# Altium footprint library Footprints.PcbLib: 1 footprints
Each footprint in its own frame and in the unit in brackets; x right, y up, seen from the top. Pads: shape width x height; smd on the part's side, far side on the other; paste and mask are expansions set on the pad; w line width, h text height; cw(c..) or ccw(c..) is an arc to the next point about the centre after c.
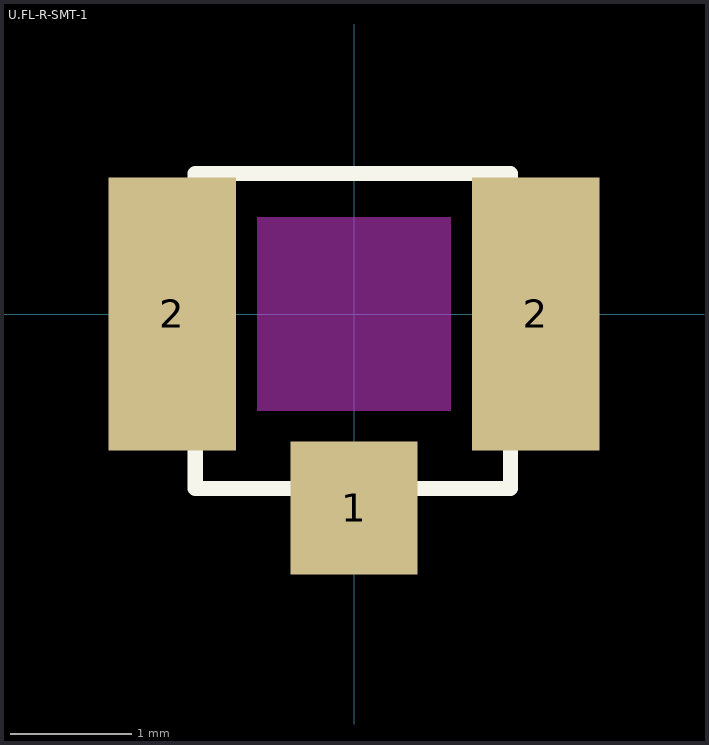
[diagram p0: the footprint, top view; thin cyan lines are the x and y axes]

## U.FL-R-SMT-1 [mm] "SMD UMC Connection."
height 1.25
pads (3):
  rect 1.05x1.1 smd: 1(0,-1.6)
  rect 1.05x2.25 smd: 2(-1.5,0) 2(1.5,0)
Top Overlay:
  lines w0.125: -1.31,-1.44 -1.31,1.16 1.29,1.16 1.29,-1.44 -1.31,-1.44
Keep-Out Layer:
  rectangle: -0.8,-0.8 0.8,0.8
3D body "U.FL-R-SMT-1.stp": height 1.26, standoff 0.01, extent -1.5,-1.55 1.5,1.55